# EAGLE library part AD5222 (library Digital Pot)
AD5222 128-Position Dual Digital Potentiometer
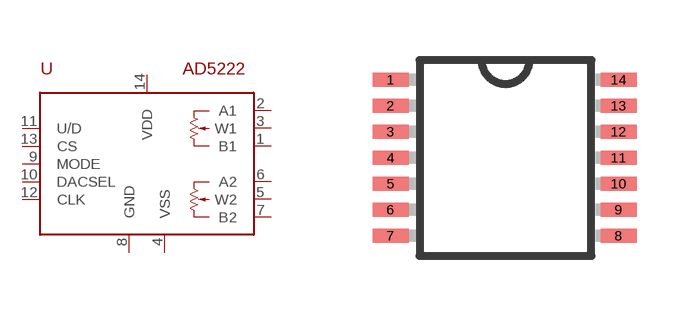
[diagram p0: symbol with the pads of TSSOP14; footprint TSSOP14]

Designator prefix -

## AD5222  [TSSOP14]
1  B1  pas
2  A1  pas
3  W1  pas
4  VSS  pwr
5  W2  pas
6  A2  pas
7  B2  pas
8  GND  pwr
9  MODE  in
10  DACSEL  in
11  U/D  in
12  CLK  in
13  CS  in
14  VDD  pwr

## Footprint TSSOP14 (pad centres in mm)
TSSOP14
smd 0.9 x 0.35: 1 -2.875,1.95; 2 -2.875,1.3; 3 -2.875,0.65; 4 -2.875,0; 5 -2.875,-0.65; 6 -2.875,-1.3; 7 -2.875,-1.95; 8 2.825,-1.95; 9 2.825,-1.3; 10 2.825,-0.65; 11 2.825,0; 12 2.825,0.65; 13 2.825,1.3; 14 2.825,1.95